# EAGLE library part MD90SM (library arcadetv)
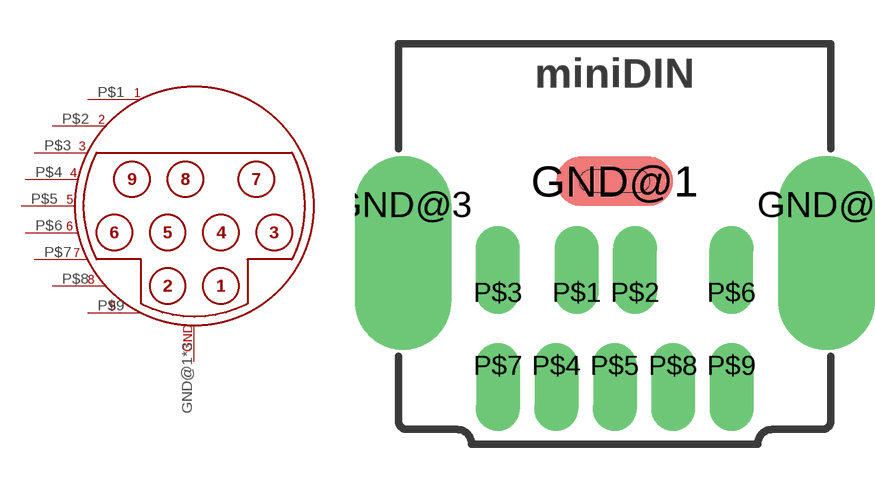
[diagram p8: symbol with the pads of MD90SM; footprint MD90SM]

Designator prefix -

## MD90SM  [MD90SM]
GND@1  GND
GND@2  GND
GND@3  GND
P$1  P$1
P$2  P$2
P$3  P$3
P$4  P$4
P$5  P$5
P$6  P$6
P$7  P$7
P$8  P$8
P$9  P$9

## Footprint MD90SM (pad centres in mm)
smd 4 x 1.7: GND@1 0,-4.7
drill 2.3 offset: GND@2 7.25,-5.5; GND@3 -7.25,-5.5
drill 1 offset: P$1 -1.3,-8.5; P$2 0.7,-8.5; P$3 -4,-8.5; P$4 -2,-11; P$5 0,-11; P$6 4,-8.5; P$7 -4,-11; P$8 2,-11; P$9 4,-11